# Altium footprint library 1318164_1.PcbLib: 1 footprints
Each footprint in its own frame and in the unit in brackets; x right, y up, seen from the top. Pads: shape width x height; smd on the part's side, far side on the other; paste and mask are expansions set on the pad; w line width, h text height; cw(c..) or ccw(c..) is an arc to the next point about the centre after c.
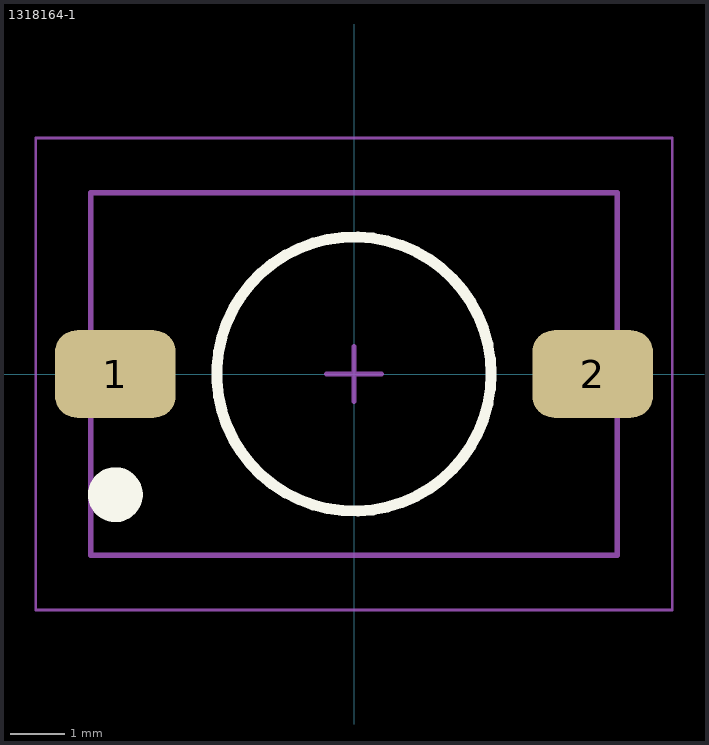
[diagram p0: the footprint, top view; thin cyan lines are the x and y axes]

## 1318164-1 [mm] "Battery Holder, Battery Compatibility ML614, 2 Pins"
height 2.3
pads (2):
  rrect50% 2.2x1.6 smd: 1(-4.35,0) 2(4.35,0)
Top Overlay:
  circle w0.5: c-4.35,-2.2 r0.25
  circle w0.2: c0,0 r2.5
Top Comment:
  text ".Comment" at 1,5 h1.2
Top Designator:
  text ".Designator" at -0.5,5 h1.2
Top Component Outline:
  lines w0.1: -4.8,-3.3 4.8,-3.3 4.8,3.3 -4.8,3.3 -4.8,-3.3
Top Courtyard (Mech15):
  lines w0.05: -5.8,-4.3 5.8,-4.3 5.8,4.3 0,4.3 -5.8,4.3 -5.8,-4.3
  lines w0.1: -0.5,0 0.5,0 ; 0,-0.5 0,0.5
3D body "c-1318164-1-o-3d.stp": height 2.3, standoff 0, extent -5.2,-3.35 5.2,3.35